# Altium footprint library PcbLib1.PcbLib: 13 footprints
Each footprint in its own frame and in the unit in brackets; x right, y up, seen from the top. Pads: shape width x height; smd on the part's side, far side on the other; paste and mask are expansions set on the pad; w line width, h text height; cw(c..) or ccw(c..) is an arc to the next point about the centre after c.
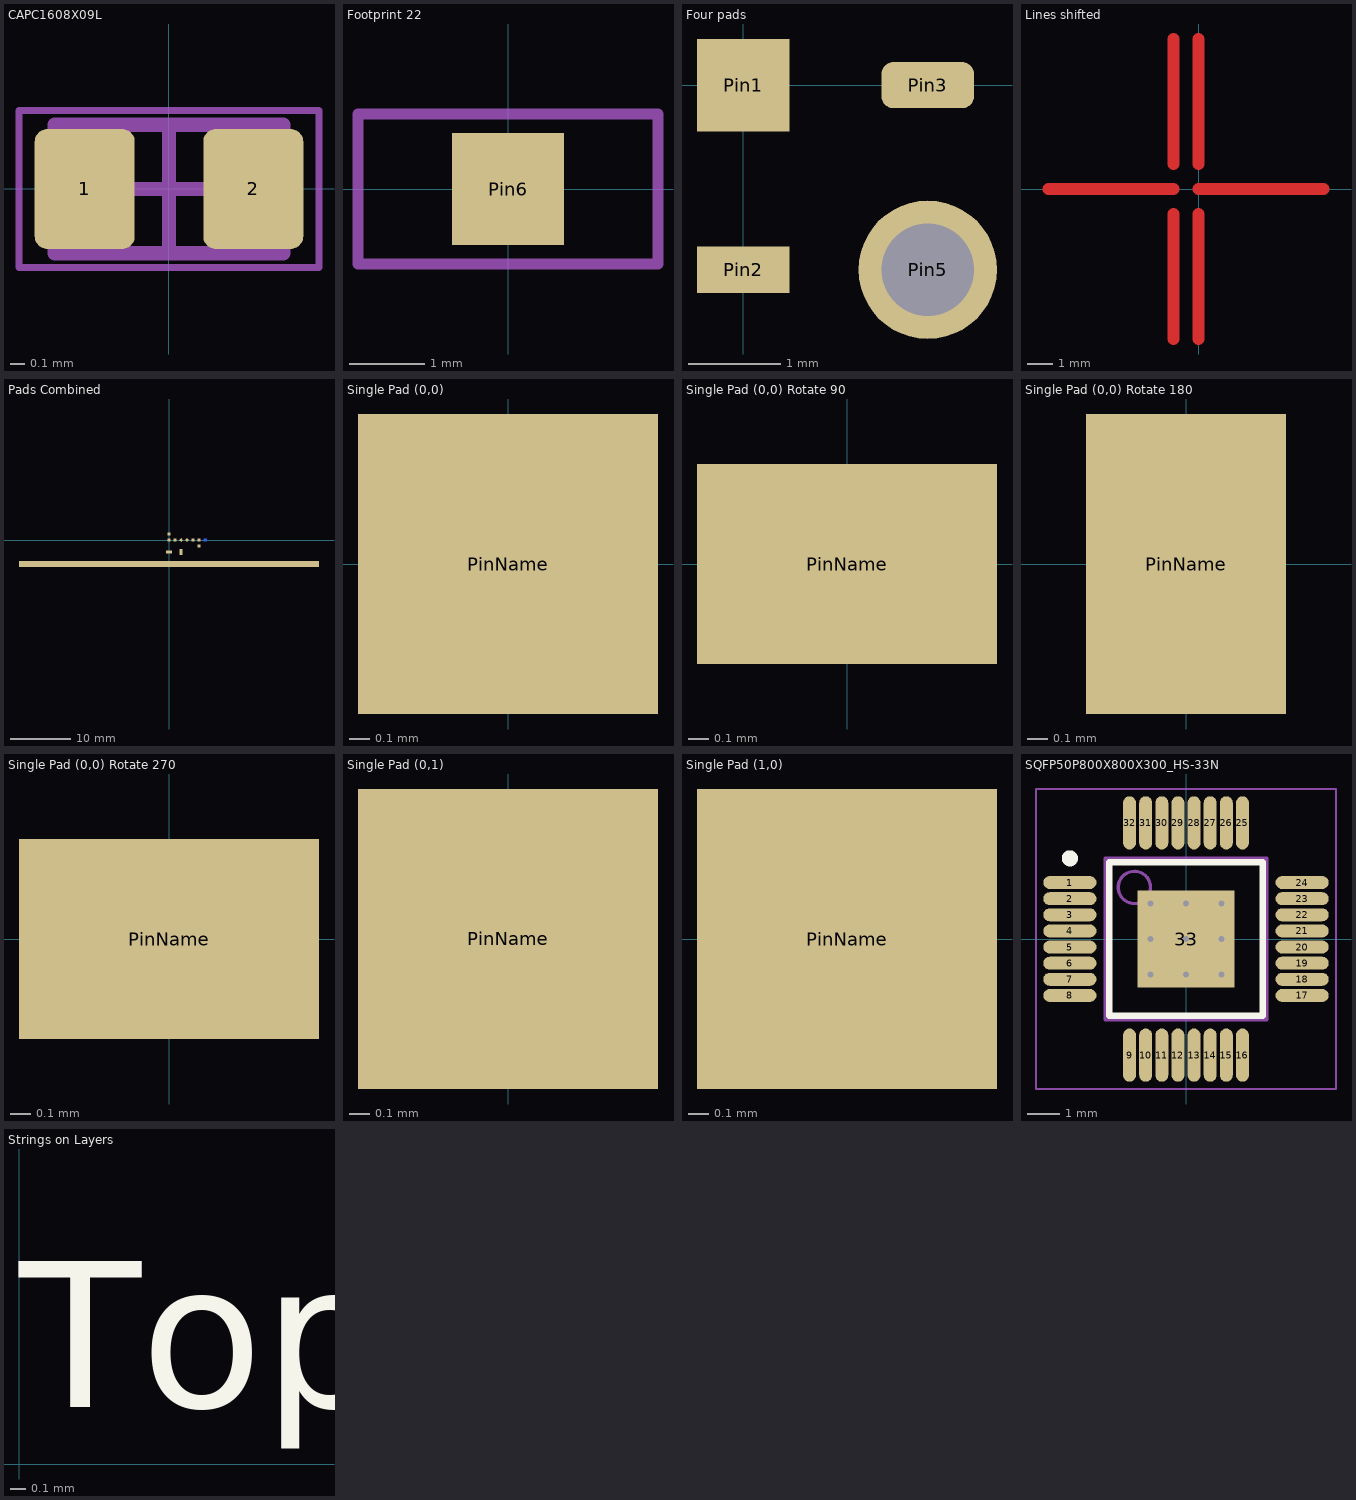
[diagram p0: the footprints below, top view; thin cyan lines are the x and y axes]

## CAPC1608X09L [mm] "Chip Capacitor, 2-Leads, Body 1.55x0.80mm, IPC High Density"
height 0.9
pads (2):
  rrect25% 0.7x0.84 smd: 1(-0.59,0) 2(0.59,0)
Mechanical 13:
  lines w0.1: -0.8,-0.45 -0.8,0.45 0.8,0.45 0.8,-0.45 -0.8,-0.45
Top Courtyard (Mech15):
  lines w0.05: -1.05,-0.55 -1.05,0.55 1.05,0.55 1.05,-0.55 -1.05,-0.55
  lines w0.1: -0.45,0 0.45,0 ; 0,-0.45 0,0.45
3D body "CAPC1608X09L.step": height 0.9, standoff 0, extent -0.8,-0.45 0.8,0.45

## Footprint 22 [mm] "Footprint 2"
height 1
pads (1):
  rect 1.5x1.5 smd: Pin6(0,0)
Top Courtyard (Mech15):
  lines w0.15: -2,-1 -2,1 2,1 2,-1 -2,-1

## Four pads [mm] "Four pads of different types"
height 1
pads (4):
  rect 1x1 smd: Pin1(0,0)
  rect 1x0.5 smd: Pin2(0,-2)
  rrect50% 1x0.5 smd: Pin3(2,0)
  round 1.5 hole 1 unplated: Pin5(2,-2)

## Lines shifted [mm] "Lines on top layer with offset"
Top Layer:
  lines w0.5: -6,0 -1,0 ; -1,-6 -1,-1 ; -1,1 -1,6 ; 0,-6 0,-1 ; 0,0 5,0 ; 0,1 0,6

## Pads Combined [mm]
pads (12):
  rect 0.5x0.5 smd: "0.5x0.5 0,0 R0"(0,0) "0.5x0.5 0,1 R0"(0,1) "0.5x0.5 1,0 R0"(1,0)
  rect 0.5x0.5 smd rot 45: "0.5x0.5 2,0 R45"(2,0)
  round 0.5 smd: "0.5x0.5 3,0 R0, Round"(3,0)
  rrect50% 0.5x0.5 smd: "0.5x0.5 4,0 R0, Round Rect 50%"(4,0)
  rrect10% 0.5x0.5 smd: "0.5x0.5 5,0 R0, Round Rect 10%"(5,0)
  rrect10% 0.5x0.5 smd mask+0.05: "0.5x0.5 5,0 R0, Round Rect 10%, Mask 0.05"(5,-1)
  rect 0.5x0.5 smd far side: "0.5x0.5 6,0 R0, Bot"(6,0)
  rect 0.5x1 smd: "0.5x1.0 2,-2 R0"(2,-2)
  rect 1x0.5 smd: "1.0x0.5 0,-2 R0"(0,-2)
  rect 50x1 smd: "Long Designator Lorem ipsum dolor sit amet, nonummy ligula volutpat hac integer nonummy. Suspendisse ultricies, congue etiam tellus, erat libero, nulla eleifend, mauris pellentesque. Suspendisse integer praesent vel, integer gravida mauris, fringilla vehi"(0,-4)

## Single Pad (0,0) [mm] "Pad at (0,0) dims 1.5x1.5 mm"
height 1
pads (1):
  rect 1.5x1.5 smd: PinName(0,0)

## Single Pad (0,0) Rotate 90 [mm] "Pad at (0,0) dims 1.5x1.5 mm"
height 1
pads (1):
  rect 1.5x1 smd: PinName(0,0)

## Single Pad (0,0) Rotate 180 [mm] "Pad at (0,0) dims 1.5x1.5 mm"
height 1
pads (1):
  rect 1x1.5 smd: PinName(0,0)

## Single Pad (0,0) Rotate 270 [mm] "Pad at (0,0) dims 1.5x1.5 mm"
height 1
pads (1):
  rect 1.5x1 smd: PinName(0,0)

## Single Pad (0,1) [mm] "Pad at (0,1) dims 1.5x1.5 mm"
height 1
pads (1):
  rect 1.5x1.5 smd: PinName(0,1)

## Single Pad (1,0) [mm] "Pad at (1,0) dims 1.5x1.5 mm"
height 1
pads (1):
  rect 1.5x1.5 smd: PinName(1,0)

## SQFP50P800X800X300_HS-33N [mm] "SQFP, 32-Leads, Body 5.00x5.00mm, Pitch 0.50mm, Thermal Pad 3.00x3.00mm, IPC Medium Density"
height 3
pads (33):
  oval 1.65x0.4 smd: 1(-3.6,1.75) 2(-3.6,1.25) 3(-3.6,0.75) 4(-3.6,0.25) 5(-3.6,-0.25) 6(-3.6,-0.75) 7(-3.6,-1.25) 8(-3.6,-1.75) 17(3.6,-1.75) 18(3.6,-1.25) 19(3.6,-0.75) 20(3.6,-0.25) 21(3.6,0.25) 22(3.6,0.75) 23(3.6,1.25) 24(3.6,1.75)
  oval 0.4x1.65 smd: 9(-1.75,-3.6) 10(-1.25,-3.6) 11(-0.75,-3.6) 12(-0.25,-3.6) 13(0.25,-3.6) 14(0.75,-3.6) 15(1.25,-3.6) 16(1.75,-3.6) 25(1.75,3.6) 26(1.25,3.6) 27(0.75,3.6) 28(0.25,3.6) 29(-0.25,3.6) 30(-0.75,3.6) 31(-1.25,3.6) 32(-1.75,3.6)
  rect 3x3 smd: 33(0,0)
via 1.1,-1.1 diameter 0.5 hole 0.2
via 0,-1.1 diameter 0.5 hole 0.2
via -1.1,-1.1 diameter 0.5 hole 0.2
via 1.1,0 diameter 0.5 hole 0.2
via 0,0 diameter 0.5 hole 0.2
via -1.1,0 diameter 0.5 hole 0.2
via 1.1,1.1 diameter 0.5 hole 0.2
via 0,1.1 diameter 0.5 hole 0.2
via -1.1,1.1 diameter 0.5 hole 0.2
Top Overlay:
  circle w0.25: c-3.6,2.5 r0.125
  lines w0.2: -2.375,-2.375 2.375,-2.375 2.375,2.375 -2.375,2.375 -2.375,-2.375
Mechanical 13:
  circle w0.1: c-1.6,1.6 r0.5
  lines w0.1: -2.5,-2.5 2.5,-2.5 2.5,2.5 -2.5,2.5 -2.5,-2.5
Top Courtyard (Mech15):
  lines w0.05: -4.65,-4.65 4.65,-4.65 4.65,4.65 -4.65,4.65 -4.65,-4.65
  lines w0.1: -0.5,0 0.5,0 ; 0,-0.5 0,0.5
3D body "SQFP50P800X800X300_HS-33N.step": height 3, standoff 0, extent -4,-4 4,4

## Strings on Layers [mm]
Top Layer:
  text "Top / All strings 20mm x 2mm box / 2mm text height / Font Calibri bold / (0,0) center" at 0,9 h2
  text "Top" at 0,0 h2
Bottom Layer:
  text "Bot" at 0,0 h2
Top Overlay:
  text "Top Overlay" at 0,0 h2
Bottom Overlay:
  text "Bot Overlay" at 0,0 h2
Top Paste:
  text "Top Paste" at 0,0 h2
Bottom Paste:
  text "Bot Paste" at 0,0 h2
Top Solder:
  text "Top Solder" at 0,0 h2
Bottom Solder:
  text "Bot Solder" at 0,0 h2
Mechanical 1:
  text "M1" at 0,0 h2
Mechanical 13:
  text "M13" at 0,0 h2
Top Courtyard (Mech15):
  text "Top courtyard M15" at 0,0 h2
Bottom Courtyard (Mech16):
  text "Bot Courtyard" at 0,0 h2